# EAGLE library part SRPING_TB_UP3 (library srg)
Spring loaded Terminal block 4UCON 0.10 pitch straight (wire goes in top) 2 amps 20-26 AWG Adafruit: P/N 1081 <http://www.adafruit.com/products/1081>
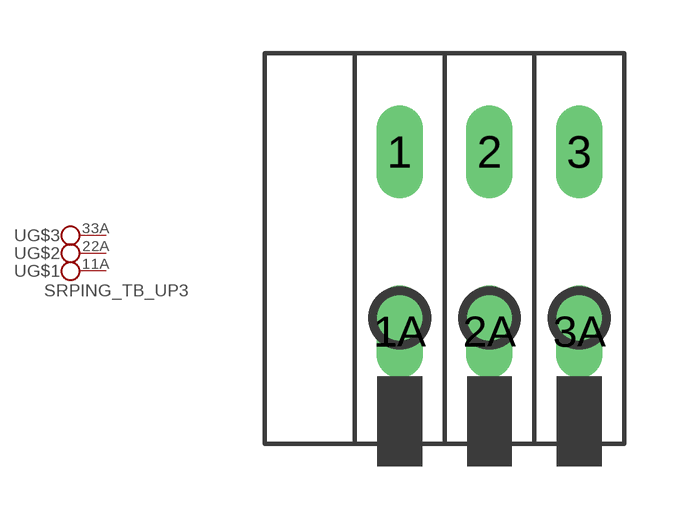
[diagram p4: symbol with the pads of SPRING_TB_UP3; footprint SPRING_TB_UP3]

Designator prefix -; gates G$1=KL2V G$2=KL2 G$3=KL2

## SRPING_TB_UP3  [SPRING_TB_UP3]
1  G$1:1  pas
1A  G$1:2  pas
2  G$2:1  pas
2A  G$2:2  pas
3  G$3:1  pas
3A  G$3:2  pas

## Footprint SPRING_TB_UP3 (pad centres in mm)
Spring Loaded Terminal Block 4UCON 0.10 pitch straight (wire goes in top) 2 amps 20-26 AWG Adafruit: P/N 1081 <http://www.adafruit.com/products/1081> Terminal block comes with 3 terminals, but the are modular so you can add or remove terminals
drill 0.8 long: 1 -2.54,2.54; 1A -2.54,-2.54; 2 0,2.54; 2A 0,-2.54; 3 2.54,2.54; 3A 2.54,-2.54